# EAGLE library part 66201011022 (library Wire_to_Board_Connectors_rev15d)
WR-MPC3 3.00mm Male Single Row Angled Header with Plastic Pegs, 10 Pins=>Code : Con_WTB_MPC3_1_PCB_66201011022 <http://katalog.we-online.de/media/thumbs2/eican/thb_Con_WTB_MPC3_1_PCB_6620xx11022_pf2.jpg> Details see: http://katalog.we-online.de/en/em/662_0xx_110_22 Created 2014-06-06, Karrer Zheng 2014 (C) Würth Elektronik
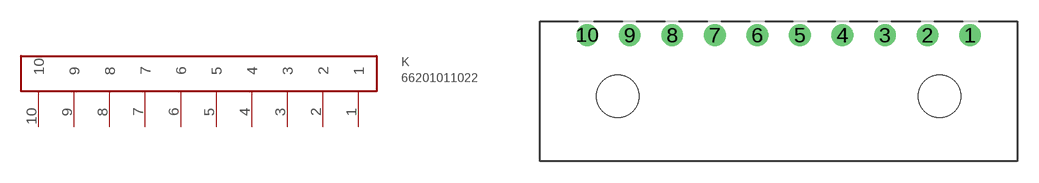
[diagram p347: symbol with the pads of 66201011022; footprint 66201011022]

Designator prefix K

## 66201011022  [66201011022]
1  1
2  2
3  3
4  4
5  5
6  6
7  7
8  8
9  9
10  10

## Footprint 66201011022 (pad centres in mm)
WR-MPC3 3.00mm Male Single Row Angled Header with Plastic Pegs, 10 Pins
drill 1.02: 1 13.5,4.32; 2 10.5,4.32; 3 7.5,4.32; 4 4.5,4.32; 5 1.5,4.32; 6 -1.5,4.32; 7 -4.5,4.32; 8 -7.5,4.32; 9 -10.5,4.32; 10 -13.5,4.32
hole 3 at 11.34,0
hole 3 at -11.34,0